# Altium integrated library 1724480004.IntLib: 1 symbol
Pins are listed as number, name and electrical type; pins without a type are passive.

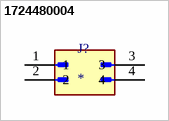
[diagram p0: symbol 1724480004]

## 1724480004
designator J?
Mini-FitÂ® Jr. Header, Dual Row, Right Angle, with Snap-in Plastic Peg PCB Lock, 4 Circuits, PA Polyamide Nylon 6/6 94V-2, Tin (Sn) Plating; MP: 172448-0004; MF: Molex; SnapEDA_Link: https://www.snapeda.com/parts/172448-0004/Molex/view-part/2762235/?ref=snap; Price: None; Package: None; Availability: In Stock; Check_prices: https://www.snapeda.com/parts/172448-0004/Molex/view-part/2762235/?ref=eda; Value: *
footprint MOLEX_1724480004
pins: 1, 2, 3, 4